# Altium footprint library FUSE2920.PcbLib: 1 footprints
Each footprint in its own frame and in the unit in brackets; x right, y up, seen from the top. Pads: shape width x height; smd on the part's side, far side on the other; paste and mask are expansions set on the pad; w line width, h text height; cw(c..) or ccw(c..) is an arc to the next point about the centre after c.
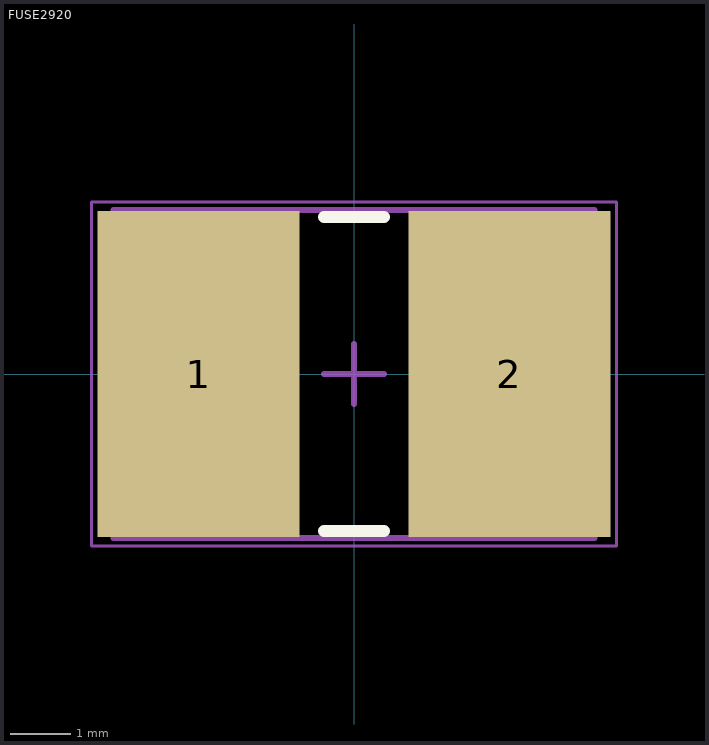
[diagram p0: the footprint, top view; thin cyan lines are the x and y axes]

## FUSE2920 [mm]
height 1.25
pads (2):
  rect 3.35x5.4 smd: 1(-2.575,0) 2(2.575,0)
Top Overlay:
  lines w0.2: -0.5,-2.6 0.5,-2.6 ; -0.5,2.6 0.5,2.6
Mechanical 13:
  lines w0.1: -3.99,-2.72 -3.99,2.72 3.99,2.72 3.99,-2.72 -3.99,-2.72
Mechanical 15:
  lines w0.05: -4.35,-2.85 -4.35,2.85 4.35,2.85 4.35,-2.85 -4.35,-2.85
  lines w0.1: -0.5,0 0.5,0 ; 0,-0.5 0,0.5
3D body: height 1, standoff 0, extent -3.85,-2.65 3.85,2.65